# Altium schematic symbol library sym-0011.SchLib: 1 symbol
Pins are listed as number, name and electrical type; pins without a type are passive.

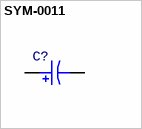
[diagram p0: symbol SYM-0011]

## SYM-0011
designator C?
Polarized Capacitor
pins: 1, 2